# Altium footprint library con-molex-micro-fit-3_0.PCBLIB: 194 footprints (part 3 of 13)
Each footprint in its own frame and in the unit in brackets; x right, y up, seen from the top. Pads: shape width x height; smd on the part's side, far side on the other; paste and mask are expansions set on the pad; w line width, h text height; cw(c..) or ccw(c..) is an arc to the next point about the centre after c.
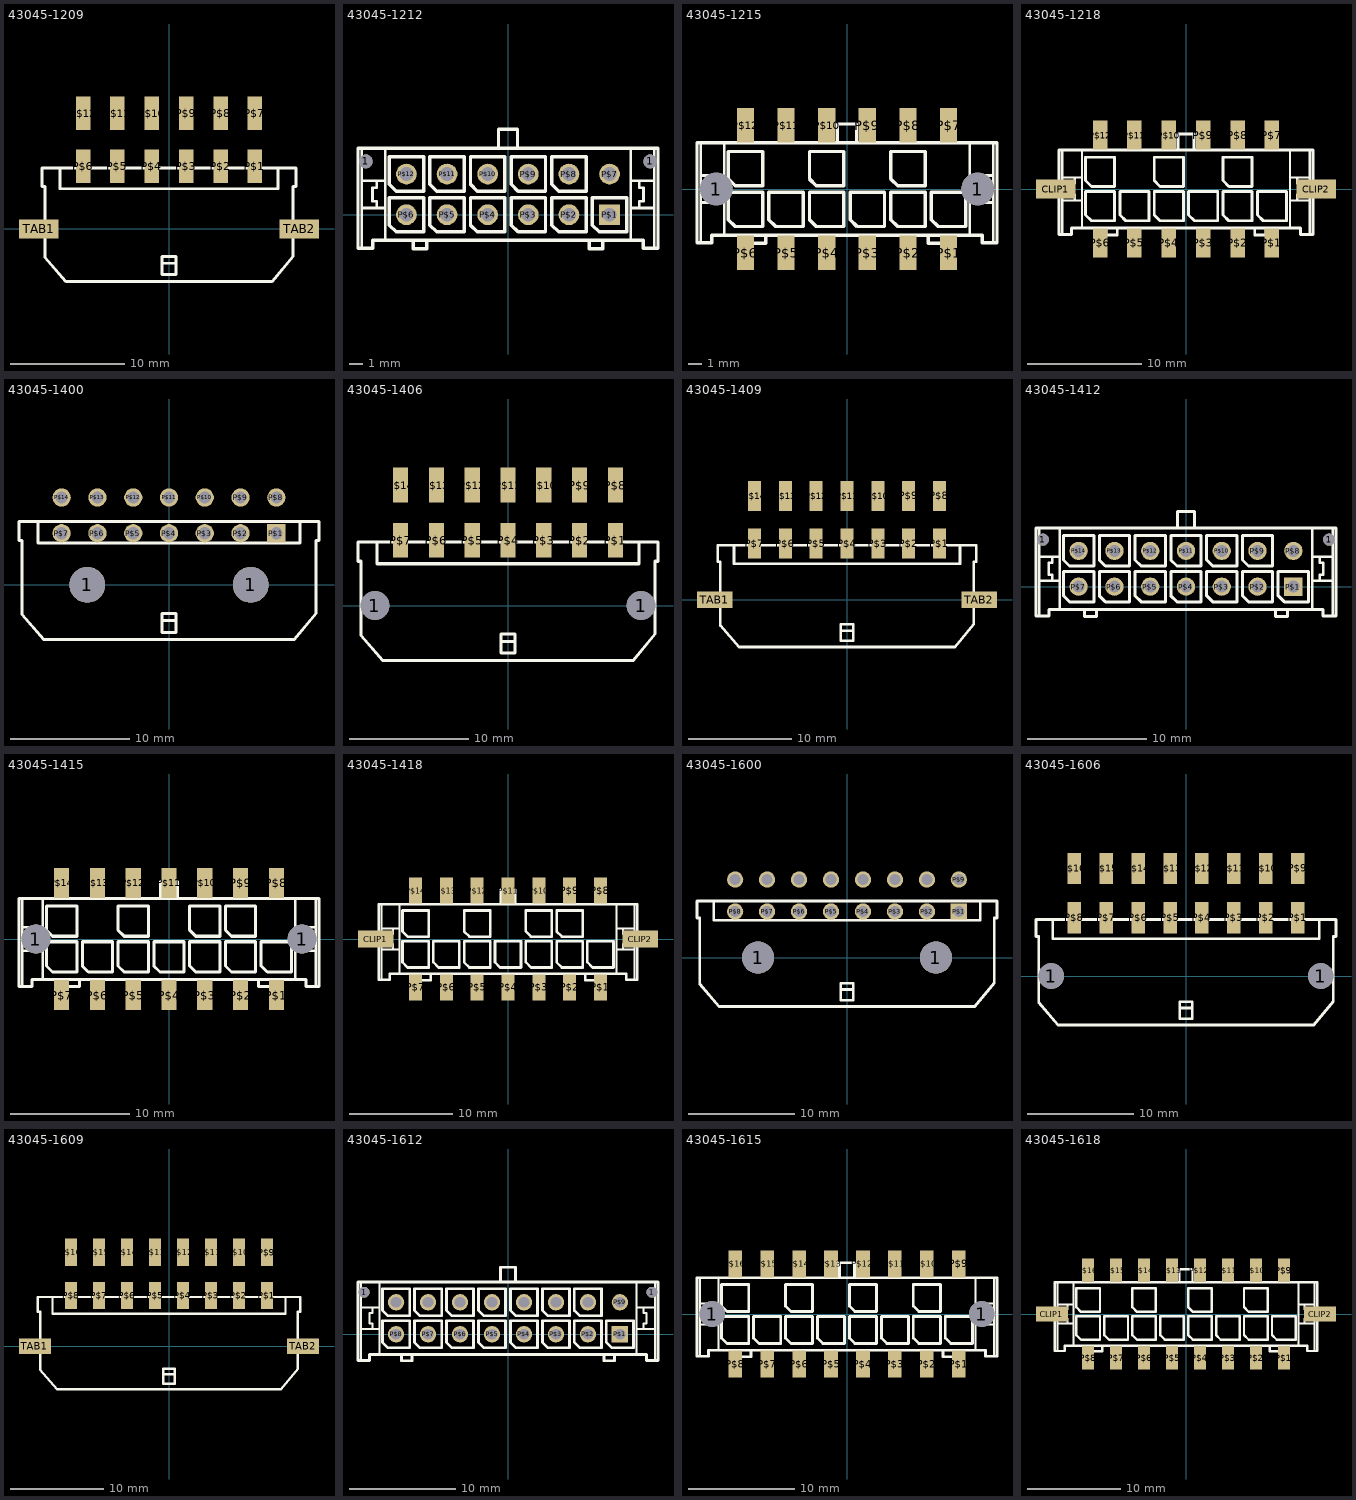
[diagram p2: the footprints below, top view; thin cyan lines are the x and y axes]

## 43045-1209 [mm]
pads (14):
  rect 1.27x2.92 smd: P$1(7.5,5.47) P$2(4.5,5.47) P$3(1.5,5.47) P$4(-1.5,5.47) P$5(-4.5,5.47) P$6(-7.5,5.47) P$7(7.5,10.1) P$8(4.5,10.1) P$9(1.5,10.1) P$10(-1.5,10.1) P$11(-4.5,10.1) P$12(-7.5,10.1)
  rect 3.43x1.65 smd: TAB1(-11.38,0) TAB2(11.38,0)
Top Overlay:
  lines w0.127: -4.83,5.31 -9.5,5.31 -4.825,5.31
  lines w0.254: -9.5,5.31 -11.08,5.31 -11.08,3.71 -10.825,3.71 -10.825,-2.5 -9,-4.6 9,-4.6 10.825,-2.4 10.825,3.71 11.08,3.71 11.08,5.31 9.5,5.31 ; -9.5,5.31 9.5,5.31 ; -9.5,5.31 -9.5,3.5 9.5,3.5 9.5,5.31 ; -0.6,-3 -0.6,-4 0.6,-4 0.6,-3 ; -0.6,-3 -0.6,-2.4 0.6,-2.4 0.6,-3 ; -0.6,-3 0.6,-3

## 43045-1212 [mm]
pads (14):
  round 1.02 hole 1.02: 1(-10.5,3.94) 1(10.5,3.94)
  rect 1.53x1.53 hole 1.02: P$1(7.5,0)
  round 1.53 hole 1.02: P$2(4.5,0) P$3(1.5,0) P$4(-1.5,0) P$5(-4.5,0) P$6(-7.5,0) P$7(7.5,3) P$8(4.5,3) P$9(1.5,3) P$10(-1.5,3) P$11(-4.5,3) P$12(-7.5,3)
Top Overlay:
  lines w0.2: -10.8,-2.47 -10.8,0.5 ; -10.8,4.9 -10.8,2.5 ; -9.07,-1.9 -9.07,0.5 ; -9.07,4.9 -9.07,2.5 ; 9.07,-1.9 9.07,0.5 ; 9.07,4.9 9.07,2.5 ; 10.8,-2.47 10.8,0.5 ; 10.8,4.9 10.8,2.5 ; -10.8,0.5 -10.8,2.5 ; -10.8,0.5 -9.7,0.5 ; -10.8,2.5 -9.7,2.5 ; -9.7,0.5 -9.07,0.5 ; -9.7,0.5 -9.7,1 -10,1 -10,2 -9.7,2 -9.7,2.5 ; -9.7,2.5 -9.07,2.5 ; -9.07,0.5 -9.07,2.5 ; 9.07,0.5 9.07,2.5 ; 9.07,0.5 9.7,0.5 ; 9.07,2.5 9.7,2.5 ; 9.7,0.5 10.8,0.5 ; 9.7,0.5 9.7,1 10,1 10,2 9.7,2 9.7,2.5 ; 9.7,2.5 10.8,2.5 ; 10.8,0.5 10.8,2.5
  lines w0.254: -7,-1.9 -6,-1.9 ; -7,-1.9 -9.07,-1.9 -10,-1.9 -10,-2.47 -10.8,-2.47 -11.075,-2.47 -11.075,4.9 -10.8,4.9 -9.07,4.9 -0.7,4.9 ; -7,-1.9 -7,-2.5 -6,-2.5 -6,-1.9 ; -6,-1.9 6,-1.9 ; -0.7,4.9 0.7,4.9 ; -0.7,4.9 -0.7,6.3 0.7,6.3 0.7,4.9 ; 0.7,4.9 9.07,4.9 10.8,4.9 11.075,4.9 11.075,-2.47 10.8,-2.47 10,-2.47 10,-1.9 9.07,-1.9 7,-1.9 ; 6,-1.9 7,-1.9 ; 6,-1.9 6,-2.5 7,-2.5 7,-1.9 ; -8.77,-0.762 -8.77,1.27 -6.23,1.27 -6.23,-1.27 -8.262,-1.27 -8.77,-0.762 ; -8.77,2.238 -8.77,4.27 -6.23,4.27 -6.23,1.73 -8.262,1.73 -8.77,2.238 ; -5.77,-0.762 -5.77,1.27 -3.23,1.27 -3.23,-1.27 -5.262,-1.27 -5.77,-0.762 ; -5.77,2.238 -5.77,4.27 -3.23,4.27 -3.23,1.73 -5.262,1.73 -5.77,2.238 ; -2.77,-0.762 -2.77,1.27 -0.23,1.27 -0.23,-1.27 -2.262,-1.27 -2.77,-0.762 ; -2.77,2.238 -2.77,4.27 -0.23,4.27 -0.23,1.73 -2.262,1.73 -2.77,2.238 ; 0.23,-0.762 0.23,1.27 2.77,1.27 2.77,-1.27 0.738,-1.27 0.23,-0.762 ; 0.23,2.238 0.23,4.27 2.77,4.27 2.77,1.73 0.738,1.73 0.23,2.238 ; 3.23,-0.762 3.23,1.27 5.77,1.27 5.77,-1.27 3.738,-1.27 3.23,-0.762 ; 3.23,2.238 3.23,4.27 5.77,4.27 5.77,1.73 3.738,1.73 3.23,2.238 ; 6.23,-0.762 6.23,1.27 8.77,1.27 8.77,-1.27 6.738,-1.27 6.23,-0.762
Bottom Overlay:
  lines w0.254: 6.23,1.73 6.23,4.27 8.77,4.27 8.77,2.238 8.262,1.73 6.23,1.73

## 43045-1215 [mm]
pads (14):
  round 2.41 hole 2.41: 1(-9.65,0) 1(9.65,0)
  rect 1.27x2.54 smd: P$1(7.5,-4.7) P$2(4.5,-4.7) P$3(1.5,-4.7) P$4(-1.5,-4.7) P$5(-4.5,-4.7) P$6(-7.5,-4.7) P$7(7.5,4.7) P$8(4.5,4.7) P$9(1.5,4.7) P$10(-1.5,4.7) P$11(-4.5,4.7) P$12(-7.5,4.7)
Top Overlay:
  lines w0.2: -10.8,-3.97 -10.8,-1 ; -10.8,3.4 -10.8,1 ; -9.07,-3.4 -9.07,-1 ; -9.07,3.4 -9.07,1 ; 9.07,-3.4 9.07,-1 ; 9.07,3.4 9.07,1 ; 10.8,-3.97 10.8,-1 ; 10.8,3.4 10.8,1 ; -10.8,-1 -10.8,1 ; -10.8,-1 -9.7,-1 ; -10.8,1 -9.7,1 ; -9.7,-1 -9.07,-1 ; -9.7,-1 -9.7,-0.5 -10,-0.5 -10,0.5 -9.7,0.5 -9.7,1 ; -9.7,1 -9.07,1 ; -9.07,-1 -9.07,1 ; 9.07,-1 9.07,1 ; 9.07,-1 9.7,-1 ; 9.07,1 9.7,1 ; 9.7,-1 10.8,-1 ; 9.7,-1 9.7,-0.5 10,-0.5 10,0.5 9.7,0.5 9.7,1 ; 9.7,1 10.8,1 ; 10.8,-1 10.8,1
  lines w0.254: -7,-3.4 -6,-3.4 ; -7,-3.4 -9.07,-3.4 -10,-3.4 -10,-3.97 -10.8,-3.97 -11.075,-3.97 -11.075,3.4 -10.8,3.4 -9.07,3.4 -0.7,3.4 ; -7,-3.4 -7,-4 -6,-4 -6,-3.4 ; -6,-3.4 6,-3.4 ; -0.7,3.4 0.7,3.4 ; -0.7,3.4 -0.7,4.8 0.7,4.8 0.7,3.4 ; 0.7,3.4 9.07,3.4 10.8,3.4 11.075,3.4 11.075,-3.97 10.8,-3.97 10,-3.97 10,-3.4 9.07,-3.4 7,-3.4 ; 6,-3.4 7,-3.4 ; 6,-3.4 6,-4 7,-4 7,-3.4 ; -8.77,-2.262 -8.77,-0.23 -6.23,-0.23 -6.23,-2.77 -8.262,-2.77 -8.77,-2.262 ; -8.77,0.738 -8.77,2.77 -6.23,2.77 -6.23,0.23 -8.262,0.23 -8.77,0.738 ; -5.77,-2.262 -5.77,-0.23 -3.23,-0.23 -3.23,-2.77 -5.262,-2.77 -5.77,-2.262 ; -2.77,-2.262 -2.77,-0.23 -0.23,-0.23 -0.23,-2.77 -2.262,-2.77 -2.77,-2.262 ; -2.77,0.738 -2.77,2.77 -0.23,2.77 -0.23,0.23 -2.262,0.23 -2.77,0.738 ; 0.23,-2.262 0.23,-0.23 2.77,-0.23 2.77,-2.77 0.738,-2.77 0.23,-2.262 ; 3.23,-2.262 3.23,-0.23 5.77,-0.23 5.77,-2.77 3.738,-2.77 3.23,-2.262 ; 3.23,0.738 3.23,2.77 5.77,2.77 5.77,0.23 3.738,0.23 3.23,0.738 ; 6.23,-2.262 6.23,-0.23 8.77,-0.23 8.77,-2.77 6.738,-2.77 6.23,-2.262
Bottom Overlay:
  lines w0.254: -5.77,0.23 -5.77,2.77 -3.23,2.77 -3.23,0.738 -3.738,0.23 -5.77,0.23 ; 0.23,0.23 0.23,2.77 2.77,2.77 2.77,0.738 2.262,0.23 0.23,0.23 ; 6.23,0.23 6.23,2.77 8.77,2.77 8.77,0.738 8.262,0.23 6.23,0.23

## 43045-1218 [mm]
pads (14):
  rect 3.43x1.65 smd: CLIP1(-11.38,0) CLIP2(11.38,0)
  rect 1.27x2.54 smd: P$1(7.5,-4.7) P$2(4.5,-4.7) P$3(1.5,-4.7) P$4(-1.5,-4.7) P$5(-4.5,-4.7) P$6(-7.5,-4.7) P$7(7.5,4.7) P$8(4.5,4.7) P$9(1.5,4.7) P$10(-1.5,4.7) P$11(-4.5,4.7) P$12(-7.5,4.7)
Top Overlay:
  lines w0.2: -10.8,-3.97 -10.8,-1 ; -10.8,3.4 -10.8,1 ; -9.07,-3.4 -9.07,-1 ; -9.07,3.4 -9.07,1 ; 9.07,-3.4 9.07,-1 ; 9.07,3.4 9.07,1 ; 10.8,-3.97 10.8,-1 ; 10.8,3.4 10.8,1 ; -10.8,-1 -10.8,1 ; -10.8,-1 -9.7,-1 ; -10.8,1 -9.7,1 ; -9.7,-1 -9.07,-1 ; -9.7,-1 -9.7,-0.5 -10,-0.5 -10,0.5 -9.7,0.5 -9.7,1 ; -9.7,1 -9.07,1 ; -9.07,-1 -9.07,1 ; 9.07,-1 9.07,1 ; 9.07,-1 9.7,-1 ; 9.07,1 9.7,1 ; 9.7,-1 10.8,-1 ; 9.7,-1 9.7,-0.5 10,-0.5 10,0.5 9.7,0.5 9.7,1 ; 9.7,1 10.8,1 ; 10.8,-1 10.8,1
  lines w0.254: -7,-3.4 -6,-3.4 ; -7,-3.4 -9.07,-3.4 -10,-3.4 -10,-3.97 -10.8,-3.97 -11.075,-3.97 -11.075,3.4 -10.8,3.4 -9.07,3.4 -0.7,3.4 ; -7,-3.4 -7,-4 -6,-4 -6,-3.4 ; -6,-3.4 6,-3.4 ; -0.7,3.4 0.7,3.4 ; -0.7,3.4 -0.7,4.8 0.7,4.8 0.7,3.4 ; 0.7,3.4 9.07,3.4 10.8,3.4 11.075,3.4 11.075,-3.97 10.8,-3.97 10,-3.97 10,-3.4 9.07,-3.4 7,-3.4 ; 6,-3.4 7,-3.4 ; 6,-3.4 6,-4 7,-4 7,-3.4 ; -8.77,-2.262 -8.77,-0.23 -6.23,-0.23 -6.23,-2.77 -8.262,-2.77 -8.77,-2.262 ; -8.77,0.738 -8.77,2.77 -6.23,2.77 -6.23,0.23 -8.262,0.23 -8.77,0.738 ; -5.77,-2.262 -5.77,-0.23 -3.23,-0.23 -3.23,-2.77 -5.262,-2.77 -5.77,-2.262 ; -2.77,-2.262 -2.77,-0.23 -0.23,-0.23 -0.23,-2.77 -2.262,-2.77 -2.77,-2.262 ; -2.77,0.738 -2.77,2.77 -0.23,2.77 -0.23,0.23 -2.262,0.23 -2.77,0.738 ; 0.23,-2.262 0.23,-0.23 2.77,-0.23 2.77,-2.77 0.738,-2.77 0.23,-2.262 ; 3.23,-2.262 3.23,-0.23 5.77,-0.23 5.77,-2.77 3.738,-2.77 3.23,-2.262 ; 3.23,0.738 3.23,2.77 5.77,2.77 5.77,0.23 3.738,0.23 3.23,0.738 ; 6.23,-2.262 6.23,-0.23 8.77,-0.23 8.77,-2.77 6.738,-2.77 6.23,-2.262
Bottom Overlay:
  lines w0.254: -5.77,0.23 -5.77,2.77 -3.23,2.77 -3.23,0.738 -3.738,0.23 -5.77,0.23 ; 0.23,0.23 0.23,2.77 2.77,2.77 2.77,0.738 2.262,0.23 0.23,0.23 ; 6.23,0.23 6.23,2.77 8.77,2.77 8.77,0.738 8.262,0.23 6.23,0.23

## 43045-1400 [mm]
pads (16):
  round 3 hole 3: 1(-6.85,0) 1(6.85,0)
  rect 1.53x1.53 hole 1.02: P$1(9,4.32)
  round 1.53 hole 1.02: P$2(6,4.32) P$3(3,4.32) P$4(0,4.32) P$5(-3,4.32) P$6(-6,4.32) P$7(-9,4.32) P$8(9,7.32) P$9(6,7.32) P$10(3,7.32) P$11(0,7.32) P$12(-3,7.32) P$13(-6,7.32) P$14(-9,7.32)
Top Overlay:
  lines w0.127: -4.83,5.31 -11,5.31 -4.825,5.31
  lines w0.254: -11,5.31 -12.575,5.31 -12.575,3.71 -12.325,3.71 -12.325,-2.5 -10.5,-4.6 10.5,-4.6 12.325,-2.4 12.325,3.71 12.575,3.71 12.575,5.31 11,5.31 ; -11,5.31 11,5.31 ; -11,5.31 -11,3.5 11,3.5 11,5.31 ; -0.6,-3 -0.6,-4 0.6,-4 0.6,-3 ; -0.6,-3 -0.6,-2.4 0.6,-2.4 0.6,-3 ; -0.6,-3 0.6,-3

## 43045-1406 [mm]
pads (16):
  round 2.41 hole 2.41: 1(-11.15,0) 1(11.15,0)
  rect 1.27x2.92 smd: P$1(9,5.47) P$2(6,5.47) P$3(3,5.47) P$4(0,5.47) P$5(-3,5.47) P$6(-6,5.47) P$7(-9,5.47) P$8(9,10.1) P$9(6,10.1) P$10(3,10.1) P$11(0,10.1) P$12(-3,10.1) P$13(-6,10.1) P$14(-9,10.1)
Top Overlay:
  lines w0.127: -4.83,5.31 -11,5.31 -4.825,5.31
  lines w0.254: -11,5.31 -12.575,5.31 -12.575,3.71 -12.325,3.71 -12.325,-2.5 -10.5,-4.6 10.5,-4.6 12.325,-2.4 12.325,3.71 12.575,3.71 12.575,5.31 11,5.31 ; -11,5.31 11,5.31 ; -11,5.31 -11,3.5 11,3.5 11,5.31 ; -0.6,-3 -0.6,-4 0.6,-4 0.6,-3 ; -0.6,-3 -0.6,-2.4 0.6,-2.4 0.6,-3 ; -0.6,-3 0.6,-3

## 43045-1409 [mm]
pads (16):
  rect 1.27x2.92 smd: P$1(9,5.47) P$2(6,5.47) P$3(3,5.47) P$4(0,5.47) P$5(-3,5.47) P$6(-6,5.47) P$7(-9,5.47) P$8(9,10.1) P$9(6,10.1) P$10(3,10.1) P$11(0,10.1) P$12(-3,10.1) P$13(-6,10.1) P$14(-9,10.1)
  rect 3.43x1.65 smd: TAB1(-12.88,0) TAB2(12.88,0)
Top Overlay:
  lines w0.127: -4.83,5.31 -11,5.31 -4.825,5.31
  lines w0.254: -11,5.31 -12.575,5.31 -12.575,3.71 -12.325,3.71 -12.325,-2.5 -10.5,-4.6 10.5,-4.6 12.325,-2.4 12.325,3.71 12.575,3.71 12.575,5.31 11,5.31 ; -11,5.31 11,5.31 ; -11,5.31 -11,3.5 11,3.5 11,5.31 ; -0.6,-3 -0.6,-4 0.6,-4 0.6,-3 ; -0.6,-3 -0.6,-2.4 0.6,-2.4 0.6,-3 ; -0.6,-3 0.6,-3

## 43045-1412 [mm]
pads (16):
  round 1.02 hole 1.02: 1(-12,3.94) 1(12,3.94)
  rect 1.53x1.53 hole 1.02: P$1(9,0)
  round 1.53 hole 1.02: P$2(6,0) P$3(3,0) P$4(0,0) P$5(-3,0) P$6(-6,0) P$7(-9,0) P$8(9,3) P$9(6,3) P$10(3,3) P$11(0,3) P$12(-3,3) P$13(-6,3) P$14(-9,3)
Top Overlay:
  lines w0.2: -12.3,-2.47 -12.3,0.5 ; -12.3,4.9 -12.3,2.5 ; -10.57,-1.9 -10.57,0.5 ; -10.57,4.9 -10.57,2.5 ; 10.57,-1.9 10.57,0.5 ; 10.57,4.9 10.57,2.5 ; 12.3,-2.47 12.3,0.5 ; 12.3,4.9 12.3,2.5 ; -12.3,0.5 -12.3,2.5 ; -12.3,0.5 -11.2,0.5 ; -12.3,2.5 -11.2,2.5 ; -11.2,0.5 -10.57,0.5 ; -11.2,0.5 -11.2,1 -11.5,1 -11.5,2 -11.2,2 -11.2,2.5 ; -11.2,2.5 -10.57,2.5 ; -10.57,0.5 -10.57,2.5 ; 10.57,0.5 10.57,2.5 ; 10.57,0.5 11.2,0.5 ; 10.57,2.5 11.2,2.5 ; 11.2,0.5 12.3,0.5 ; 11.2,0.5 11.2,1 11.5,1 11.5,2 11.2,2 11.2,2.5 ; 11.2,2.5 12.3,2.5 ; 12.3,0.5 12.3,2.5
  lines w0.254: -8.5,-1.9 -7.5,-1.9 ; -8.5,-1.9 -10.57,-1.9 -11.5,-1.9 -11.5,-2.47 -12.3,-2.47 -12.575,-2.47 -12.575,4.9 -12.3,4.9 -10.57,4.9 -0.7,4.9 ; -8.5,-1.9 -8.5,-2.5 -7.5,-2.5 -7.5,-1.9 ; -7.5,-1.9 7.5,-1.9 ; -0.7,4.9 0.7,4.9 ; -0.7,4.9 -0.7,6.3 0.7,6.3 0.7,4.9 ; 0.7,4.9 10.57,4.9 12.3,4.9 12.575,4.9 12.575,-2.47 12.3,-2.47 11.5,-2.47 11.5,-1.9 10.57,-1.9 8.5,-1.9 ; 7.5,-1.9 8.5,-1.9 ; 7.5,-1.9 7.5,-2.5 8.5,-2.5 8.5,-1.9 ; -10.27,-0.762 -10.27,1.27 -7.73,1.27 -7.73,-1.27 -9.762,-1.27 -10.27,-0.762 ; -10.27,2.238 -10.27,4.27 -7.73,4.27 -7.73,1.73 -9.762,1.73 -10.27,2.238 ; -7.27,-0.762 -7.27,1.27 -4.73,1.27 -4.73,-1.27 -6.762,-1.27 -7.27,-0.762 ; -7.27,2.238 -7.27,4.27 -4.73,4.27 -4.73,1.73 -6.762,1.73 -7.27,2.238 ; -4.27,-0.762 -4.27,1.27 -1.73,1.27 -1.73,-1.27 -3.762,-1.27 -4.27,-0.762 ; -4.27,2.238 -4.27,4.27 -1.73,4.27 -1.73,1.73 -3.762,1.73 -4.27,2.238 ; -1.27,-0.762 -1.27,1.27 1.27,1.27 1.27,-1.27 -0.762,-1.27 -1.27,-0.762 ; -1.27,2.238 -1.27,4.27 1.27,4.27 1.27,1.73 -0.762,1.73 -1.27,2.238 ; 1.73,-0.762 1.73,1.27 4.27,1.27 4.27,-1.27 2.238,-1.27 1.73,-0.762 ; 1.73,2.238 1.73,4.27 4.27,4.27 4.27,1.73 2.238,1.73 1.73,2.238 ; 4.73,-0.762 4.73,1.27 7.27,1.27 7.27,-1.27 5.238,-1.27 4.73,-0.762 ; 4.73,2.238 4.73,4.27 7.27,4.27 7.27,1.73 5.238,1.73 4.73,2.238 ; 7.73,-0.762 7.73,1.27 10.27,1.27 10.27,-1.27 8.238,-1.27 7.73,-0.762
Bottom Overlay:
  lines w0.254: 7.73,1.73 7.73,4.27 10.27,4.27 10.27,2.238 9.762,1.73 7.73,1.73

## 43045-1415 [mm]
pads (16):
  round 2.41 hole 2.41: 1(-11.15,0) 1(11.15,0)
  rect 1.27x2.54 smd: P$1(9,-4.7) P$2(6,-4.7) P$3(3,-4.7) P$4(0,-4.7) P$5(-3,-4.7) P$6(-6,-4.7) P$7(-9,-4.7) P$8(9,4.7) P$9(6,4.7) P$10(3,4.7) P$11(0,4.7) P$12(-3,4.7) P$13(-6,4.7) P$14(-9,4.7)
Top Overlay:
  lines w0.2: -12.3,-3.97 -12.3,-1 ; -12.3,3.4 -12.3,1 ; -10.57,-3.4 -10.57,-1 ; -10.57,3.4 -10.57,1 ; 10.57,-3.4 10.57,-1 ; 10.57,3.4 10.57,1 ; 12.3,-3.97 12.3,-1 ; 12.3,3.4 12.3,1 ; -12.3,-1 -12.3,1 ; -12.3,-1 -11.2,-1 ; -12.3,1 -11.2,1 ; -11.2,-1 -10.57,-1 ; -11.2,-1 -11.2,-0.5 -11.5,-0.5 -11.5,0.5 -11.2,0.5 -11.2,1 ; -11.2,1 -10.57,1 ; -10.57,-1 -10.57,1 ; 10.57,-1 10.57,1 ; 10.57,-1 11.2,-1 ; 10.57,1 11.2,1 ; 11.2,-1 12.3,-1 ; 11.2,-1 11.2,-0.5 11.5,-0.5 11.5,0.5 11.2,0.5 11.2,1 ; 11.2,1 12.3,1 ; 12.3,-1 12.3,1
  lines w0.254: -8.5,-3.4 -7.5,-3.4 ; -8.5,-3.4 -10.57,-3.4 -11.5,-3.4 -11.5,-3.97 -12.3,-3.97 -12.575,-3.97 -12.575,3.4 -12.3,3.4 -10.57,3.4 -0.7,3.4 ; -8.5,-3.4 -8.5,-4 -7.5,-4 -7.5,-3.4 ; -7.5,-3.4 7.5,-3.4 ; -0.7,3.4 0.7,3.4 ; -0.7,3.4 -0.7,4.8 0.7,4.8 0.7,3.4 ; 0.7,3.4 10.57,3.4 12.3,3.4 12.575,3.4 12.575,-3.97 12.3,-3.97 11.5,-3.97 11.5,-3.4 10.57,-3.4 8.5,-3.4 ; 7.5,-3.4 8.5,-3.4 ; 7.5,-3.4 7.5,-4 8.5,-4 8.5,-3.4 ; -10.27,-2.262 -10.27,-0.23 -7.73,-0.23 -7.73,-2.77 -9.762,-2.77 -10.27,-2.262 ; -10.27,0.738 -10.27,2.77 -7.73,2.77 -7.73,0.23 -9.762,0.23 -10.27,0.738 ; -7.27,-2.262 -7.27,-0.23 -4.73,-0.23 -4.73,-2.77 -6.762,-2.77 -7.27,-2.262 ; -4.27,-2.262 -4.27,-0.23 -1.73,-0.23 -1.73,-2.77 -3.762,-2.77 -4.27,-2.262 ; -4.27,0.738 -4.27,2.77 -1.73,2.77 -1.73,0.23 -3.762,0.23 -4.27,0.738 ; -1.27,-2.262 -1.27,-0.23 1.27,-0.23 1.27,-2.77 -0.762,-2.77 -1.27,-2.262 ; 1.73,-2.262 1.73,-0.23 4.27,-0.23 4.27,-2.77 2.238,-2.77 1.73,-2.262 ; 1.73,0.738 1.73,2.77 4.27,2.77 4.27,0.23 2.238,0.23 1.73,0.738 ; 4.73,-2.262 4.73,-0.23 7.27,-0.23 7.27,-2.77 5.238,-2.77 4.73,-2.262 ; 4.73,0.738 4.73,2.77 7.27,2.77 7.27,0.23 5.238,0.23 4.73,0.738 ; 7.73,-2.262 7.73,-0.23 10.27,-0.23 10.27,-2.77 8.238,-2.77 7.73,-2.262
Bottom Overlay:
  lines w0.254: -7.27,0.23 -7.27,2.77 -4.73,2.77 -4.73,0.738 -5.238,0.23 -7.27,0.23 ; -1.27,0.23 -1.27,2.77 1.27,2.77 1.27,0.738 0.762,0.23 -1.27,0.23 ; 7.73,0.23 7.73,2.77 10.27,2.77 10.27,0.738 9.762,0.23 7.73,0.23

## 43045-1418 [mm]
pads (16):
  rect 3.43x1.65 smd: CLIP1(-12.88,0) CLIP2(12.88,0)
  rect 1.27x2.54 smd: P$1(9,-4.7) P$2(6,-4.7) P$3(3,-4.7) P$4(0,-4.7) P$5(-3,-4.7) P$6(-6,-4.7) P$7(-9,-4.7) P$8(9,4.7) P$9(6,4.7) P$10(3,4.7) P$11(0,4.7) P$12(-3,4.7) P$13(-6,4.7) P$14(-9,4.7)
Top Overlay:
  lines w0.2: -12.3,-3.97 -12.3,-1 ; -12.3,3.4 -12.3,1 ; -10.57,-3.4 -10.57,-1 ; -10.57,3.4 -10.57,1 ; 10.57,-3.4 10.57,-1 ; 10.57,3.4 10.57,1 ; 12.3,-3.97 12.3,-1 ; 12.3,3.4 12.3,1 ; -12.3,-1 -12.3,1 ; -12.3,-1 -11.2,-1 ; -12.3,1 -11.2,1 ; -11.2,-1 -10.57,-1 ; -11.2,-1 -11.2,-0.5 -11.5,-0.5 -11.5,0.5 -11.2,0.5 -11.2,1 ; -11.2,1 -10.57,1 ; -10.57,-1 -10.57,1 ; 10.57,-1 10.57,1 ; 10.57,-1 11.2,-1 ; 10.57,1 11.2,1 ; 11.2,-1 12.3,-1 ; 11.2,-1 11.2,-0.5 11.5,-0.5 11.5,0.5 11.2,0.5 11.2,1 ; 11.2,1 12.3,1 ; 12.3,-1 12.3,1
  lines w0.254: -8.5,-3.4 -7.5,-3.4 ; -8.5,-3.4 -10.57,-3.4 -11.5,-3.4 -11.5,-3.97 -12.3,-3.97 -12.575,-3.97 -12.575,3.4 -12.3,3.4 -10.57,3.4 -0.7,3.4 ; -8.5,-3.4 -8.5,-4 -7.5,-4 -7.5,-3.4 ; -7.5,-3.4 7.5,-3.4 ; -0.7,3.4 0.7,3.4 ; -0.7,3.4 -0.7,4.8 0.7,4.8 0.7,3.4 ; 0.7,3.4 10.57,3.4 12.3,3.4 12.575,3.4 12.575,-3.97 12.3,-3.97 11.5,-3.97 11.5,-3.4 10.57,-3.4 8.5,-3.4 ; 7.5,-3.4 8.5,-3.4 ; 7.5,-3.4 7.5,-4 8.5,-4 8.5,-3.4 ; -10.27,-2.262 -10.27,-0.23 -7.73,-0.23 -7.73,-2.77 -9.762,-2.77 -10.27,-2.262 ; -10.27,0.738 -10.27,2.77 -7.73,2.77 -7.73,0.23 -9.762,0.23 -10.27,0.738 ; -7.27,-2.262 -7.27,-0.23 -4.73,-0.23 -4.73,-2.77 -6.762,-2.77 -7.27,-2.262 ; -4.27,-2.262 -4.27,-0.23 -1.73,-0.23 -1.73,-2.77 -3.762,-2.77 -4.27,-2.262 ; -4.27,0.738 -4.27,2.77 -1.73,2.77 -1.73,0.23 -3.762,0.23 -4.27,0.738 ; -1.27,-2.262 -1.27,-0.23 1.27,-0.23 1.27,-2.77 -0.762,-2.77 -1.27,-2.262 ; 1.73,-2.262 1.73,-0.23 4.27,-0.23 4.27,-2.77 2.238,-2.77 1.73,-2.262 ; 1.73,0.738 1.73,2.77 4.27,2.77 4.27,0.23 2.238,0.23 1.73,0.738 ; 4.73,-2.262 4.73,-0.23 7.27,-0.23 7.27,-2.77 5.238,-2.77 4.73,-2.262 ; 4.73,0.738 4.73,2.77 7.27,2.77 7.27,0.23 5.238,0.23 4.73,0.738 ; 7.73,-2.262 7.73,-0.23 10.27,-0.23 10.27,-2.77 8.238,-2.77 7.73,-2.262
Bottom Overlay:
  lines w0.254: -7.27,0.23 -7.27,2.77 -4.73,2.77 -4.73,0.738 -5.238,0.23 -7.27,0.23 ; -1.27,0.23 -1.27,2.77 1.27,2.77 1.27,0.738 0.762,0.23 -1.27,0.23 ; 7.73,0.23 7.73,2.77 10.27,2.77 10.27,0.738 9.762,0.23 7.73,0.23

## 43045-1600 [mm]
pads (18):
  round 3 hole 3: 1(-8.35,0) 1(8.35,0)
  rect 1.53x1.53 hole 1.02: P$1(10.5,4.32)
  round 1.53 hole 1.02: P$2(7.5,4.32) P$3(4.5,4.32) P$4(1.5,4.32) P$5(-1.5,4.32) P$6(-4.5,4.32) P$7(-7.5,4.32) P$8(-10.5,4.32) P$9(10.5,7.32) P$10(7.5,7.32) P$11(4.5,7.32) P$12(1.5,7.32) P$13(-1.5,7.32) P$14(-4.5,7.32) P$15(-7.5,7.32) P$16(-10.5,7.32)
Top Overlay:
  lines w0.127: -4.83,5.31 -12.5,5.31 -4.825,5.31
  lines w0.254: -12.5,5.31 -14.08,5.31 -14.08,3.71 -13.825,3.71 -13.825,-2.5 -12,-4.6 12,-4.6 13.825,-2.4 13.825,3.71 14.08,3.71 14.08,5.31 12.5,5.31 ; -12.5,5.31 12.5,5.31 ; -12.5,5.31 -12.5,3.5 12.5,3.5 12.5,5.31 ; -0.6,-3 -0.6,-4 0.6,-4 0.6,-3 ; -0.6,-3 -0.6,-2.4 0.6,-2.4 0.6,-3 ; -0.6,-3 0.6,-3

## 43045-1606 [mm]
pads (18):
  round 2.41 hole 2.41: 1(-12.65,0) 1(12.65,0)
  rect 1.27x2.92 smd: P$1(10.5,5.47) P$2(7.5,5.47) P$3(4.5,5.47) P$4(1.5,5.47) P$5(-1.5,5.47) P$6(-4.5,5.47) P$7(-7.5,5.47) P$8(-10.5,5.47) P$9(10.5,10.1) P$10(7.5,10.1) P$11(4.5,10.1) P$12(1.5,10.1) P$13(-1.5,10.1) P$14(-4.5,10.1) P$15(-7.5,10.1) P$16(-10.5,10.1)
Top Overlay:
  lines w0.127: -4.83,5.31 -12.5,5.31 -4.825,5.31
  lines w0.254: -12.5,5.31 -14.08,5.31 -14.08,3.71 -13.825,3.71 -13.825,-2.5 -12,-4.6 12,-4.6 13.825,-2.4 13.825,3.71 14.08,3.71 14.08,5.31 12.5,5.31 ; -12.5,5.31 12.5,5.31 ; -12.5,5.31 -12.5,3.5 12.5,3.5 12.5,5.31 ; -0.6,-3 -0.6,-4 0.6,-4 0.6,-3 ; -0.6,-3 -0.6,-2.4 0.6,-2.4 0.6,-3 ; -0.6,-3 0.6,-3

## 43045-1609 [mm]
pads (18):
  rect 1.27x2.92 smd: P$1(10.5,5.47) P$2(7.5,5.47) P$3(4.5,5.47) P$4(1.5,5.47) P$5(-1.5,5.47) P$6(-4.5,5.47) P$7(-7.5,5.47) P$8(-10.5,5.47) P$9(10.5,10.1) P$10(7.5,10.1) P$11(4.5,10.1) P$12(1.5,10.1) P$13(-1.5,10.1) P$14(-4.5,10.1) P$15(-7.5,10.1) P$16(-10.5,10.1)
  rect 3.43x1.65 smd: TAB1(-14.38,0) TAB2(14.38,0)
Top Overlay:
  lines w0.127: -4.83,5.31 -12.5,5.31 -4.825,5.31
  lines w0.254: -12.5,5.31 -14.08,5.31 -14.08,3.71 -13.825,3.71 -13.825,-2.5 -12,-4.6 12,-4.6 13.825,-2.4 13.825,3.71 14.08,3.71 14.08,5.31 12.5,5.31 ; -12.5,5.31 12.5,5.31 ; -12.5,5.31 -12.5,3.5 12.5,3.5 12.5,5.31 ; -0.6,-3 -0.6,-4 0.6,-4 0.6,-3 ; -0.6,-3 -0.6,-2.4 0.6,-2.4 0.6,-3 ; -0.6,-3 0.6,-3

## 43045-1612 [mm]
pads (18):
  round 1.02 hole 1.02: 1(-13.5,3.94) 1(13.5,3.94)
  rect 1.53x1.53 hole 1.02: P$1(10.5,0)
  round 1.53 hole 1.02: P$2(7.5,0) P$3(4.5,0) P$4(1.5,0) P$5(-1.5,0) P$6(-4.5,0) P$7(-7.5,0) P$8(-10.5,0) P$9(10.5,3) P$10(7.5,3) P$11(4.5,3) P$12(1.5,3) P$13(-1.5,3) P$14(-4.5,3) P$15(-7.5,3) P$16(-10.5,3)
Top Overlay:
  lines w0.2: -13.8,-2.47 -13.8,0.5 ; -13.8,4.9 -13.8,2.5 ; -12.07,-1.9 -12.07,0.5 ; -12.07,4.9 -12.07,2.5 ; 12.07,-1.9 12.07,0.5 ; 12.07,4.9 12.07,2.5 ; 13.8,-2.47 13.8,0.5 ; 13.8,4.9 13.8,2.5 ; -13.8,0.5 -13.8,2.5 ; -13.8,0.5 -12.7,0.5 ; -13.8,2.5 -12.7,2.5 ; -12.7,0.5 -12.07,0.5 ; -12.7,0.5 -12.7,1 -13,1 -13,2 -12.7,2 -12.7,2.5 ; -12.7,2.5 -12.07,2.5 ; -12.07,0.5 -12.07,2.5 ; 12.07,0.5 12.07,2.5 ; 12.07,0.5 12.7,0.5 ; 12.07,2.5 12.7,2.5 ; 12.7,0.5 13.8,0.5 ; 12.7,0.5 12.7,1 13,1 13,2 12.7,2 12.7,2.5 ; 12.7,2.5 13.8,2.5 ; 13.8,0.5 13.8,2.5
  lines w0.254: -10,-1.9 -9,-1.9 ; -10,-1.9 -12.07,-1.9 -13,-1.9 -13,-2.47 -13.8,-2.47 -14.075,-2.47 -14.075,4.9 -13.8,4.9 -12.07,4.9 -0.7,4.9 ; -10,-1.9 -10,-2.5 -9,-2.5 -9,-1.9 ; -9,-1.9 9,-1.9 ; -0.7,4.9 0.7,4.9 ; -0.7,4.9 -0.7,6.3 0.7,6.3 0.7,4.9 ; 0.7,4.9 12.07,4.9 13.8,4.9 14.075,4.9 14.075,-2.47 13.8,-2.47 13,-2.47 13,-1.9 12.07,-1.9 10,-1.9 ; 9,-1.9 10,-1.9 ; 9,-1.9 9,-2.5 10,-2.5 10,-1.9 ; -11.77,-0.762 -11.77,1.27 -9.23,1.27 -9.23,-1.27 -11.262,-1.27 -11.77,-0.762 ; -11.77,2.238 -11.77,4.27 -9.23,4.27 -9.23,1.73 -11.262,1.73 -11.77,2.238 ; -8.77,-0.762 -8.77,1.27 -6.23,1.27 -6.23,-1.27 -8.262,-1.27 -8.77,-0.762 ; -8.77,2.238 -8.77,4.27 -6.23,4.27 -6.23,1.73 -8.262,1.73 -8.77,2.238 ; -5.77,-0.762 -5.77,1.27 -3.23,1.27 -3.23,-1.27 -5.262,-1.27 -5.77,-0.762 ; -5.77,2.238 -5.77,4.27 -3.23,4.27 -3.23,1.73 -5.262,1.73 -5.77,2.238 ; -2.77,-0.762 -2.77,1.27 -0.23,1.27 -0.23,-1.27 -2.262,-1.27 -2.77,-0.762 ; -2.77,2.238 -2.77,4.27 -0.23,4.27 -0.23,1.73 -2.262,1.73 -2.77,2.238 ; 0.23,-0.762 0.23,1.27 2.77,1.27 2.77,-1.27 0.738,-1.27 0.23,-0.762 ; 0.23,2.238 0.23,4.27 2.77,4.27 2.77,1.73 0.738,1.73 0.23,2.238 ; 3.23,-0.762 3.23,1.27 5.77,1.27 5.77,-1.27 3.738,-1.27 3.23,-0.762 ; 3.23,2.238 3.23,4.27 5.77,4.27 5.77,1.73 3.738,1.73 3.23,2.238 ; 6.23,-0.762 6.23,1.27 8.77,1.27 8.77,-1.27 6.738,-1.27 6.23,-0.762 ; 6.23,2.238 6.23,4.27 8.77,4.27 8.77,1.73 6.738,1.73 6.23,2.238 ; 9.23,-0.762 9.23,1.27 11.77,1.27 11.77,-1.27 9.738,-1.27 9.23,-0.762
Bottom Overlay:
  lines w0.254: 9.23,1.73 9.23,4.27 11.77,4.27 11.77,2.238 11.262,1.73 9.23,1.73

## 43045-1615 [mm]
pads (18):
  round 2.41 hole 2.41: 1(-12.65,0) 1(12.65,0)
  rect 1.27x2.54 smd: P$1(10.5,-4.7) P$2(7.5,-4.7) P$3(4.5,-4.7) P$4(1.5,-4.7) P$5(-1.5,-4.7) P$6(-4.5,-4.7) P$7(-7.5,-4.7) P$8(-10.5,-4.7) P$9(10.5,4.7) P$10(7.5,4.7) P$11(4.5,4.7) P$12(1.5,4.7) P$13(-1.5,4.7) P$14(-4.5,4.7) P$15(-7.5,4.7) P$16(-10.5,4.7)
Top Overlay:
  lines w0.2: -13.8,-3.97 -13.8,-1 ; -13.8,3.4 -13.8,1 ; -12.07,-3.4 -12.07,-1 ; -12.07,3.4 -12.07,1 ; 12.07,-3.4 12.07,-1 ; 12.07,3.4 12.07,1 ; 13.8,-3.97 13.8,-1 ; 13.8,3.4 13.8,1 ; -13.8,-1 -13.8,1 ; -13.8,-1 -12.7,-1 ; -13.8,1 -12.7,1 ; -12.7,-1 -12.07,-1 ; -12.7,-1 -12.7,-0.5 -13,-0.5 -13,0.5 -12.7,0.5 -12.7,1 ; -12.7,1 -12.07,1 ; -12.07,-1 -12.07,1 ; 12.07,-1 12.07,1 ; 12.07,-1 12.7,-1 ; 12.07,1 12.7,1 ; 12.7,-1 13.8,-1 ; 12.7,-1 12.7,-0.5 13,-0.5 13,0.5 12.7,0.5 12.7,1 ; 12.7,1 13.8,1 ; 13.8,-1 13.8,1
  lines w0.254: -10,-3.4 -9,-3.4 ; -10,-3.4 -12.07,-3.4 -13,-3.4 -13,-3.97 -13.8,-3.97 -14.075,-3.97 -14.075,3.4 -13.8,3.4 -12.07,3.4 -0.7,3.4 ; -10,-3.4 -10,-4 -9,-4 -9,-3.4 ; -9,-3.4 9,-3.4 ; -0.7,3.4 0.7,3.4 ; -0.7,3.4 -0.7,4.8 0.7,4.8 0.7,3.4 ; 0.7,3.4 12.07,3.4 13.8,3.4 14.075,3.4 14.075,-3.97 13.8,-3.97 13,-3.97 13,-3.4 12.07,-3.4 10,-3.4 ; 9,-3.4 10,-3.4 ; 9,-3.4 9,-4 10,-4 10,-3.4 ; -11.77,-2.262 -11.77,-0.23 -9.23,-0.23 -9.23,-2.77 -11.262,-2.77 -11.77,-2.262 ; -11.77,0.738 -11.77,2.77 -9.23,2.77 -9.23,0.23 -11.262,0.23 -11.77,0.738 ; -8.77,-2.262 -8.77,-0.23 -6.23,-0.23 -6.23,-2.77 -8.262,-2.77 -8.77,-2.262 ; -5.77,-2.262 -5.77,-0.23 -3.23,-0.23 -3.23,-2.77 -5.262,-2.77 -5.77,-2.262 ; -5.77,0.738 -5.77,2.77 -3.23,2.77 -3.23,0.23 -5.262,0.23 -5.77,0.738 ; -2.77,-2.262 -2.77,-0.23 -0.23,-0.23 -0.23,-2.77 -2.262,-2.77 -2.77,-2.262 ; 0.23,-2.262 0.23,-0.23 2.77,-0.23 2.77,-2.77 0.738,-2.77 0.23,-2.262 ; 0.23,0.738 0.23,2.77 2.77,2.77 2.77,0.23 0.738,0.23 0.23,0.738 ; 3.23,-2.262 3.23,-0.23 5.77,-0.23 5.77,-2.77 3.738,-2.77 3.23,-2.262 ; 6.23,-2.262 6.23,-0.23 8.77,-0.23 8.77,-2.77 6.738,-2.77 6.23,-2.262 ; 6.23,0.738 6.23,2.77 8.77,2.77 8.77,0.23 6.738,0.23 6.23,0.738 ; 9.23,-2.262 9.23,-0.23 11.77,-0.23 11.77,-2.77 9.738,-2.77 9.23,-2.262
Bottom Overlay:
  lines w0.254: -8.77,0.23 -8.77,2.77 -6.23,2.77 -6.23,0.738 -6.738,0.23 -8.77,0.23 ; -2.77,0.23 -2.77,2.77 -0.23,2.77 -0.23,0.738 -0.738,0.23 -2.77,0.23 ; 3.23,0.23 3.23,2.77 5.77,2.77 5.77,0.738 5.262,0.23 3.23,0.23 ; 9.23,0.23 9.23,2.77 11.77,2.77 11.77,0.738 11.262,0.23 9.23,0.23

## 43045-1618 [mm]
pads (18):
  rect 3.43x1.65 smd: CLIP1(-14.38,0) CLIP2(14.38,0)
  rect 1.27x2.54 smd: P$1(10.5,-4.7) P$2(7.5,-4.7) P$3(4.5,-4.7) P$4(1.5,-4.7) P$5(-1.5,-4.7) P$6(-4.5,-4.7) P$7(-7.5,-4.7) P$8(-10.5,-4.7) P$9(10.5,4.7) P$10(7.5,4.7) P$11(4.5,4.7) P$12(1.5,4.7) P$13(-1.5,4.7) P$14(-4.5,4.7) P$15(-7.5,4.7) P$16(-10.5,4.7)
Top Overlay:
  lines w0.2: -13.8,-3.97 -13.8,-1 ; -13.8,3.4 -13.8,1 ; -12.07,-3.4 -12.07,-1 ; -12.07,3.4 -12.07,1 ; 12.07,-3.4 12.07,-1 ; 12.07,3.4 12.07,1 ; 13.8,-3.97 13.8,-1 ; 13.8,3.4 13.8,1 ; -13.8,-1 -13.8,1 ; -13.8,-1 -12.7,-1 ; -13.8,1 -12.7,1 ; -12.7,-1 -12.07,-1 ; -12.7,-1 -12.7,-0.5 -13,-0.5 -13,0.5 -12.7,0.5 -12.7,1 ; -12.7,1 -12.07,1 ; -12.07,-1 -12.07,1 ; 12.07,-1 12.07,1 ; 12.07,-1 12.7,-1 ; 12.07,1 12.7,1 ; 12.7,-1 13.8,-1 ; 12.7,-1 12.7,-0.5 13,-0.5 13,0.5 12.7,0.5 12.7,1 ; 12.7,1 13.8,1 ; 13.8,-1 13.8,1
  lines w0.254: -10,-3.4 -9,-3.4 ; -10,-3.4 -12.07,-3.4 -13,-3.4 -13,-3.97 -13.8,-3.97 -14.075,-3.97 -14.075,3.4 -13.8,3.4 -12.07,3.4 -0.7,3.4 ; -10,-3.4 -10,-4 -9,-4 -9,-3.4 ; -9,-3.4 9,-3.4 ; -0.7,3.4 0.7,3.4 ; -0.7,3.4 -0.7,4.8 0.7,4.8 0.7,3.4 ; 0.7,3.4 12.07,3.4 13.8,3.4 14.075,3.4 14.075,-3.97 13.8,-3.97 13,-3.97 13,-3.4 12.07,-3.4 10,-3.4 ; 9,-3.4 10,-3.4 ; 9,-3.4 9,-4 10,-4 10,-3.4 ; -11.77,-2.262 -11.77,-0.23 -9.23,-0.23 -9.23,-2.77 -11.262,-2.77 -11.77,-2.262 ; -11.77,0.738 -11.77,2.77 -9.23,2.77 -9.23,0.23 -11.262,0.23 -11.77,0.738 ; -8.77,-2.262 -8.77,-0.23 -6.23,-0.23 -6.23,-2.77 -8.262,-2.77 -8.77,-2.262 ; -5.77,-2.262 -5.77,-0.23 -3.23,-0.23 -3.23,-2.77 -5.262,-2.77 -5.77,-2.262 ; -5.77,0.738 -5.77,2.77 -3.23,2.77 -3.23,0.23 -5.262,0.23 -5.77,0.738 ; -2.77,-2.262 -2.77,-0.23 -0.23,-0.23 -0.23,-2.77 -2.262,-2.77 -2.77,-2.262 ; 0.23,-2.262 0.23,-0.23 2.77,-0.23 2.77,-2.77 0.738,-2.77 0.23,-2.262 ; 0.23,0.738 0.23,2.77 2.77,2.77 2.77,0.23 0.738,0.23 0.23,0.738 ; 3.23,-2.262 3.23,-0.23 5.77,-0.23 5.77,-2.77 3.738,-2.77 3.23,-2.262 ; 6.23,-2.262 6.23,-0.23 8.77,-0.23 8.77,-2.77 6.738,-2.77 6.23,-2.262 ; 6.23,0.738 6.23,2.77 8.77,2.77 8.77,0.23 6.738,0.23 6.23,0.738 ; 9.23,-2.262 9.23,-0.23 11.77,-0.23 11.77,-2.77 9.738,-2.77 9.23,-2.262
Bottom Overlay:
  lines w0.254: -8.77,0.23 -8.77,2.77 -6.23,2.77 -6.23,0.738 -6.738,0.23 -8.77,0.23 ; -2.77,0.23 -2.77,2.77 -0.23,2.77 -0.23,0.738 -0.738,0.23 -2.77,0.23 ; 3.23,0.23 3.23,2.77 5.77,2.77 5.77,0.738 5.262,0.23 3.23,0.23 ; 9.23,0.23 9.23,2.77 11.77,2.77 11.77,0.738 11.262,0.23 9.23,0.23